# EAGLE library part M4-128T100 (library amd-mach)
AMD MACH SERIES
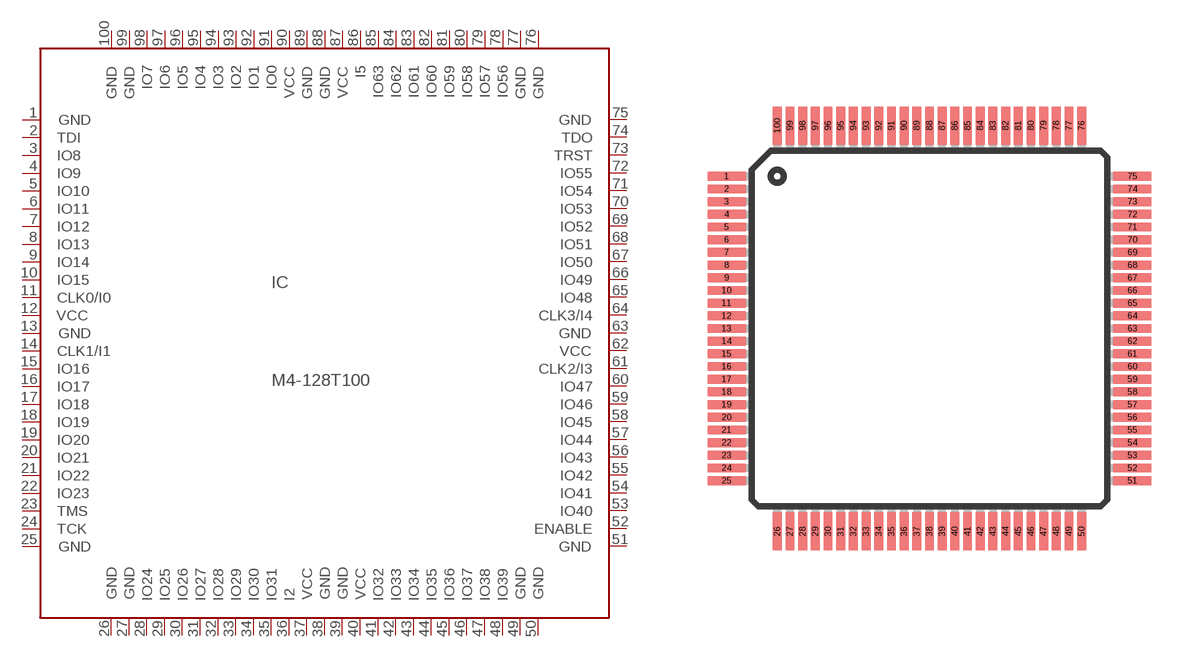
[diagram p20: symbol with the pads of TQFP100; footprint TQFP100]

Designator prefix IC

## M4-128T100 (OC_FARNELL: unknown; OC_NEWARK: unknown)  [TQFP100]
1  GND  pwr
2  TDI  in
3  IO8
4  IO9
5  IO10
6  IO11
7  IO12
8  IO13
9  IO14
10  IO15
11  CLK0/I0  in
12  VCC  pwr
13  GND  pwr
14  CLK1/I1  in
15  IO16
16  IO17
17  IO18
18  IO19
19  IO20
20  IO21
21  IO22
22  IO23
23  TMS  in
24  TCK  in
25  GND  pwr
26  GND  pwr
27  GND  pwr
28  IO24
29  IO25
30  IO26
31  IO27
32  IO28
33  IO29
34  IO30
35  IO31
36  I2  in
37  VCC  pwr
38  GND  pwr
39  GND  pwr
40  VCC  pwr
41  IO32
42  IO33
43  IO34
44  IO35
45  IO36
46  IO37
47  IO38
48  IO39
49  GND  pwr
50  GND  pwr
51  GND  pwr
52  ENABLE  in
53  IO40
54  IO41
55  IO42
56  IO43
57  IO44
58  IO45
59  IO46
60  IO47
61  CLK2/I3  in
62  VCC  pwr
63  GND  pwr
64  CLK3/I4  in
65  IO48
66  IO49
67  IO50
68  IO51
69  IO52
70  IO53
71  IO54
72  IO55
73  TRST  in
74  TDO  out
75  GND  pwr
76  GND  pwr
77  GND  pwr
78  IO56
79  IO57
80  IO58
81  IO59
82  IO60
83  IO61
84  IO62
85  IO63
86  I5  in
87  VCC  pwr
88  GND  pwr
89  GND  pwr
90  VCC  pwr
91  IO0
92  IO1
93  IO2
94  IO3
95  IO4
96  IO5
97  IO6
98  IO7
99  GND  pwr
100  GND  pwr

## Footprint TQFP100 (pad centres in mm)
THIN QUAD FLAT PACK
smd 1.5 x 0.35: 1 -8,6; 2 -8,5.5; 3 -8,5; 4 -8,4.5; 5 -8,4; 6 -8,3.5; 7 -8,3; 8 -8,2.5; 9 -8,2; 10 -8,1.5; 11 -8,1; 12 -8,0.5; 13 -8,0; 14 -8,-0.5; 15 -8,-1; 16 -8,-1.5; 17 -8,-2; 18 -8,-2.5; 19 -8,-3; 20 -8,-3.5; 21 -8,-4; 22 -8,-4.5; 23 -8,-5; 24 -8,-5.5; 25 -8,-6; 51 8,-6; 52 8,-5.5; 53 8,-5; 54 8,-4.5; 55 8,-4; 56 8,-3.5; 57 8,-3; 58 8,-2.5; 59 8,-2; 60 8,-1.5; 61 8,-1; 62 8,-0.5; 63 8,0; 64 8,0.5; 65 8,1; 66 8,1.5; 67 8,2; 68 8,2.5; 69 8,3; 70 8,3.5; 71 8,4; 72 8,4.5; 73 8,5; 74 8,5.5; 75 8,6
smd 0.35 x 1.5: 26 -6,-8; 27 -5.5,-8; 28 -5,-8; 29 -4.5,-8; 30 -4,-8; 31 -3.5,-8; 32 -3,-8; 33 -2.5,-8; 34 -2,-8; 35 -1.5,-8; 36 -1,-8; 37 -0.5,-8; 38 0,-8; 39 0.5,-8; 40 1,-8; 41 1.5,-8; 42 2,-8; 43 2.5,-8; 44 3,-8; 45 3.5,-8; 46 4,-8; 47 4.5,-8; 48 5,-8; 49 5.5,-8; 50 6,-8; 76 6,8; 77 5.5,8; 78 5,8; 79 4.5,8; 80 4,8; 81 3.5,8; 82 3,8; 83 2.5,8; 84 2,8; 85 1.5,8; 86 1,8; 87 0.5,8; 88 0,8; 89 -0.5,8; 90 -1,8; 91 -1.5,8; 92 -2,8; 93 -2.5,8; 94 -3,8; 95 -3.5,8; 96 -4,8; 97 -4.5,8; 98 -5,8; 99 -5.5,8; 100 -6,8